# Altium footprint library MYS-AltiumLib.PcbLib: 10 footprints
Each footprint in its own frame and in the unit in brackets; x right, y up, seen from the top. Pads: shape width x height; smd on the part's side, far side on the other; paste and mask are expansions set on the pad; w line width, h text height; cw(c..) or ccw(c..) is an arc to the next point about the centre after c.
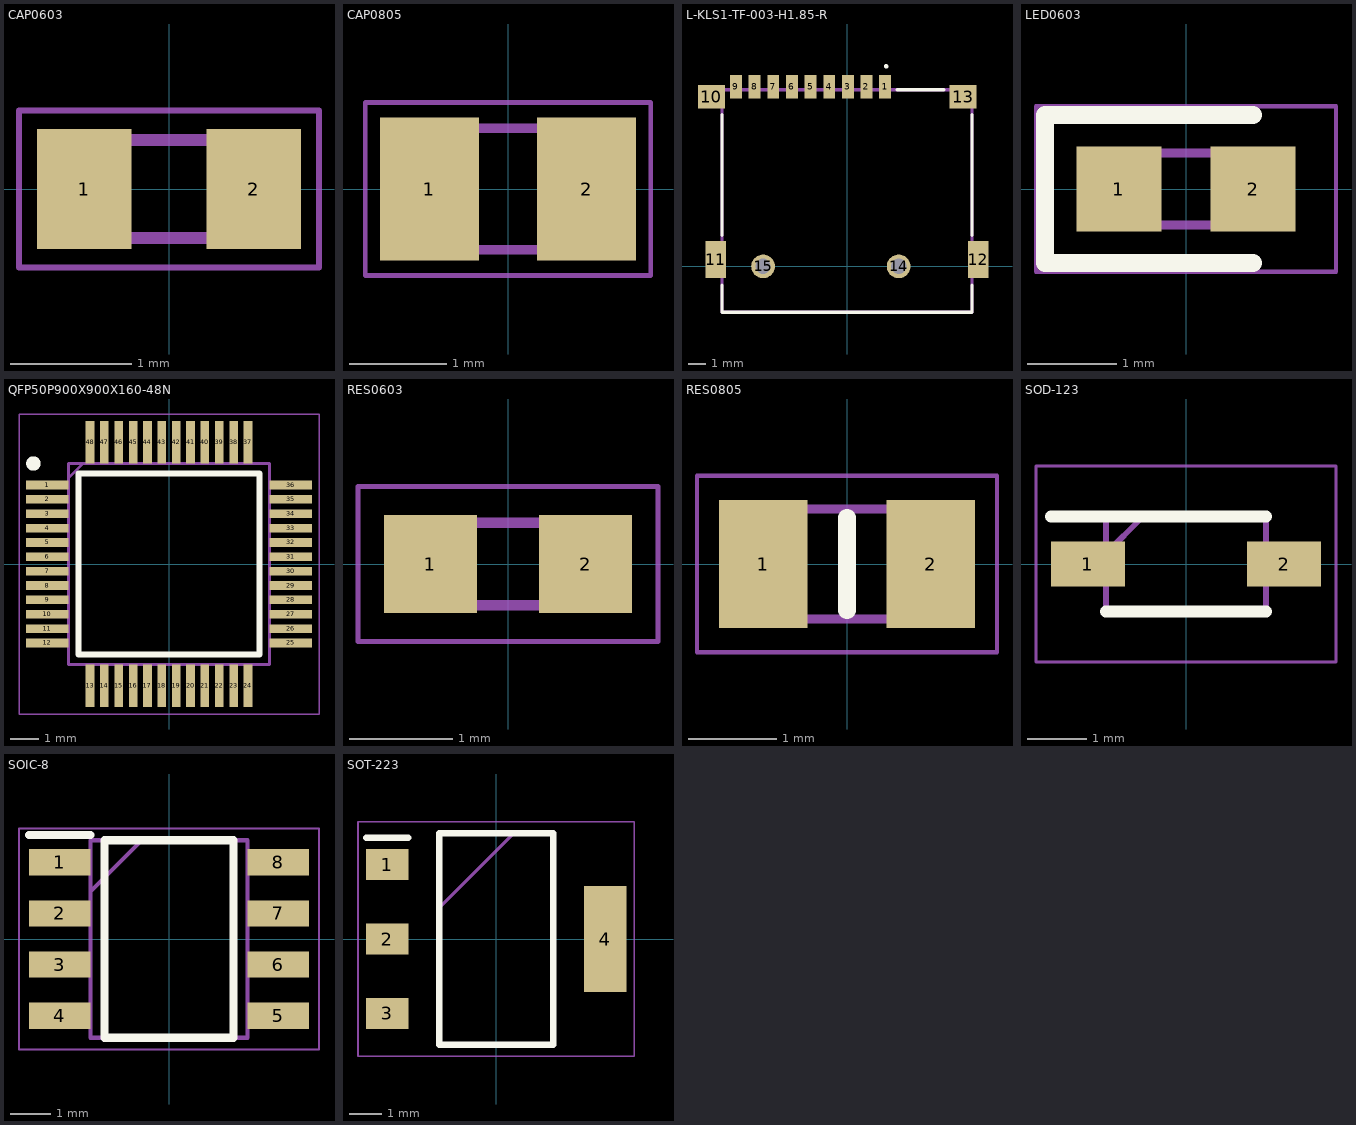
[diagram p0: the footprints below, top view; thin cyan lines are the x and y axes]

## CAP0603 [mm]
pads (2):
  rect 0.78x0.99 smd: 1(-0.7,0) 2(0.7,0)
Mechanical 13:
  lines w0.1: -0.8,-0.405 -0.8,0.405 0.8,0.405 0.8,-0.405 -0.8,-0.405
Mechanical 15:
  lines w0.05: -1.24,-0.65 -1.24,0.65 1.24,0.65 1.24,-0.65 -1.24,-0.65
3D body "06033D225MAT2A.stp": height 0.9, standoff 0, extent -0.8,-0.405 0.8,0.405

## CAP0805 [mm]
pads (2):
  rect 1.02x1.47 smd: 1(-0.81,0) 2(0.81,0)
Mechanical 13:
  lines w0.1: -1.005,-0.625 1.005,-0.625 1.005,0.625 -1.005,0.625 -1.005,-0.625
Mechanical 15:
  lines w0.05: -1.47,-0.89 1.47,-0.89 1.47,0.89 -1.47,0.89 -1.47,-0.89
3D body "08055A130JAT2A.stp": height 0.94, standoff 0, extent -1.005,-0.625 1.005,0.625

## L-KLS1-TF-003-H1.85-R [mm]
pads (15):
  rect 0.7x1.4 smd: 1(2.25,10.6) 2(1.15,10.6) 3(0.05,10.6) 4(-1.05,10.6) 5(-2.15,10.6) 6(-3.25,10.6) 7(-4.35,10.6) 8(-5.45,10.6) 9(-6.55,10.6)
  rect 1.6x1.4 smd: 10(-8,10) 13(6.85,10)
  rect 1.2x2.2 smd: 11(-7.75,0.4) 12(7.75,0.4)
  round 1.4 hole 0.9: 14(3.05,0) 15(-4.95,0)
Top Overlay:
  circle w0.2: c2.311,11.802 r0.034
  lines w0.2: -7.375,-1.104 -7.375,-2.706 7.375,-2.706 7.375,-1.104 ; -7.375,1.835 -7.375,8.95 ; 2.95,10.431 5.698,10.431 ; 7.375,1.835 7.375,8.95
Mechanical 13:
  lines w0.2: -7.375,-2.706 7.375,-2.706 7.375,10.431 -7.375,10.431 -7.375,-2.706
3D body "L-KLS1-TF-003-H1.85-R.stp": height 1.85, standoff -0.6, extent -8,-3.99 8.1,11.213

## LED0603 [mm]
pads (2):
  rect 0.95x0.95 smd: 1(-0.75,0) 2(0.75,0)
Top Overlay:
  lines w0.2: 0.75,-0.825 -1.575,-0.825 -1.575,0.825 0.75,0.825
Mechanical 13:
  lines w0.1: -0.8,0.133 -0.533,0.4 ; -0.8,-0.4 -0.8,0.4 0.8,0.4 0.8,-0.4 -0.8,-0.4
Mechanical 15:
  lines w0.05: -1.675,-0.925 -1.675,0.925 1.675,0.925 1.675,-0.925 -1.675,-0.925
3D body "150060SS75000.stp": height 0.7, standoff 0, extent -0.8,-0.4 0.8,0.4

## QFP50P900X900X160-48N [mm]
pads (48):
  rect 1.475x0.3 smd: 1(-4.238,2.75) 2(-4.238,2.25) 3(-4.238,1.75) 4(-4.238,1.25) 5(-4.238,0.75) 6(-4.238,0.25) 7(-4.238,-0.25) 8(-4.238,-0.75) 9(-4.238,-1.25) 10(-4.238,-1.75) 11(-4.238,-2.25) 12(-4.238,-2.75) 25(4.238,-2.75) 26(4.238,-2.25) 27(4.238,-1.75) 28(4.238,-1.25) 29(4.238,-0.75) 30(4.238,-0.25) 31(4.238,0.25) 32(4.238,0.75) 33(4.238,1.25) 34(4.238,1.75) 35(4.238,2.25) 36(4.238,2.75)
  rect 0.3x1.475 smd: 13(-2.75,-4.238) 14(-2.25,-4.238) 15(-1.75,-4.238) 16(-1.25,-4.238) 17(-0.75,-4.238) 18(-0.25,-4.238) 19(0.25,-4.238) 20(0.75,-4.238) 21(1.25,-4.238) 22(1.75,-4.238) 23(2.25,-4.238) 24(2.75,-4.238) 37(2.75,4.238) 38(2.25,4.238) 39(1.75,4.238) 40(1.25,4.238) 41(0.75,4.238) 42(0.25,4.238) 43(-0.25,4.238) 44(-0.75,4.238) 45(-1.25,4.238) 46(-1.75,4.238) 47(-2.25,4.238) 48(-2.75,4.238)
Top Overlay:
  circle w0.25: c-4.725,3.5 r0.125
  lines w0.2: -3.15,-3.15 -3.15,3.15 3.15,3.15 3.15,-3.15 -3.15,-3.15
Mechanical 13:
  lines w0.1: -3.5,3 -3,3.5 ; -3.5,-3.5 -3.5,3.5 3.5,3.5 3.5,-3.5 -3.5,-3.5
Mechanical 15:
  lines w0.05: -5.225,-5.225 -5.225,5.225 5.225,5.225 5.225,-5.225 -5.225,-5.225
3D body "STM32F103C8T6TR.stp": height 1.6, standoff 0, extent -4.5,-4.5 4.5,4.5

## RES0603 [mm]
pads (2):
  rect 0.9x0.95 smd: 1(-0.75,0) 2(0.75,0)
Mechanical 13:
  lines w0.1: -0.775,-0.4 0.775,-0.4 0.775,0.4 -0.775,0.4 -0.775,-0.4
Mechanical 15:
  lines w0.05: -1.45,-0.75 1.45,-0.75 1.45,0.75 -1.45,0.75 -1.45,-0.75
3D body "CPF0603B100RE1.stp": height 0.55, standoff 0, extent -0.775,-0.4 0.775,0.4

## RES0805 [mm]
pads (2):
  rect 1x1.45 smd: 1(-0.95,0) 2(0.95,0)
Top Overlay:
  lines w0.2: 0,-0.525 0,0.525
Mechanical 13:
  lines w0.1: -1,-0.625 1,-0.625 1,0.625 -1,0.625 -1,-0.625
Mechanical 15:
  lines w0.05: -1.7,-1 1.7,-1 1.7,1 -1.7,1 -1.7,-1
3D body "CPF0805B107RE1.stp": height 0.65, standoff 0, extent -1,-0.625 1,0.625

## SOD-123 [mm]
pads (2):
  rect 1.25x0.75 smd: 1(-1.65,0) 2(1.65,0)
Top Overlay:
  lines w0.2: -2.275,0.8 1.35,0.8 ; -1.35,-0.8 1.35,-0.8
Mechanical 13:
  lines w0.1: -1.35,0.175 -0.725,0.8 ; -1.35,-0.8 -1.35,0.8 1.35,0.8 1.35,-0.8 -1.35,-0.8
Mechanical 15:
  lines w0.05: -2.525,-1.65 -2.525,1.65 2.525,1.65 2.525,-1.65 -2.525,-1.65
3D body "B5819W.stp": height 1.25, standoff 0, extent -1.85,-0.8 1.85,0.8

## SOIC-8 [mm]
pads (8):
  rect 1.528x0.65 smd: 1(-2.711,1.905) 2(-2.711,0.635) 3(-2.711,-0.635) 4(-2.711,-1.905) 5(2.711,-1.905) 6(2.711,-0.635) 7(2.711,0.635) 8(2.711,1.905)
Top Overlay:
  lines w0.2: -3.475,2.58 -1.948,2.58 ; -1.598,-2.452 1.598,-2.452 1.598,2.452 -1.598,2.452 -1.598,-2.452
Mechanical 13:
  lines w0.1: -1.948,1.182 -0.678,2.452 ; -1.948,-2.452 1.948,-2.452 1.948,2.452 -1.948,2.452 -1.948,-2.452
Mechanical 15:
  lines w0.05: -3.725,-2.75 3.725,-2.75 3.725,2.75 -3.725,2.75 -3.725,-2.75
3D body "SN65HVD234DR.stp": height 1.63, standoff 0, extent -3.011,-2.451 3.011,2.451

## SOT-223 [mm]
pads (4):
  rect 1.3x0.95 smd: 1(-3.35,2.29) 2(-3.35,0) 3(-3.35,-2.29)
  rect 1.3x3.25 smd: 4(3.35,0)
Top Overlay:
  lines w0.2: -4,3.115 -2.7,3.115 ; -1.752,-3.252 -1.752,3.252 1.752,3.252 1.752,-3.252 -1.752,-3.252
Mechanical 13:
  lines w0.1: -1.752,0.962 0.538,3.252 ; -1.752,-3.252 -1.752,3.252 1.752,3.252 1.752,-3.252 -1.752,-3.252
Mechanical 15:
  lines w0.05: -4.25,-3.605 -4.25,3.605 4.25,3.605 4.25,-3.605 -4.25,-3.605
3D body "AMS1117-3.3.stp": height 1.8, standoff 0, extent -3.5,-3.253 3.5,3.253